# EAGLE library part CP2110-F02-GM1 (library Silicon Labs)
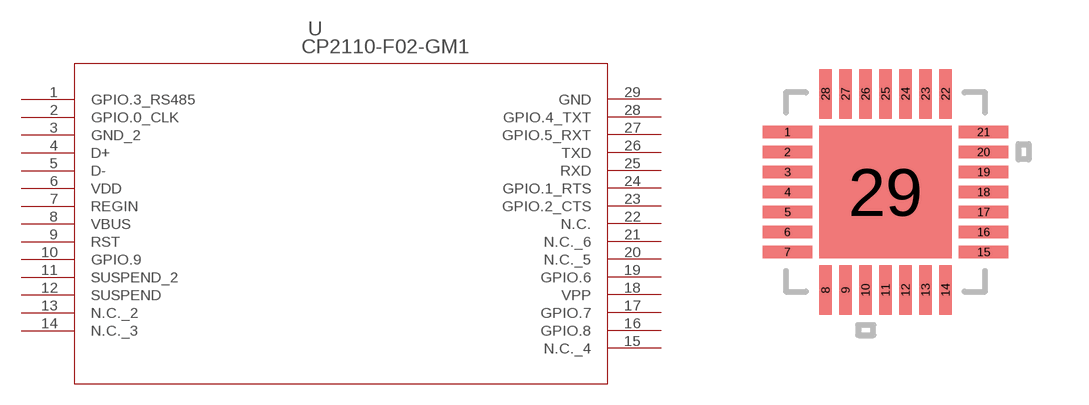
[diagram p8: symbol with the pads of CP2110-F02-GM1; footprint CP2110-F02-GM1]

Designator prefix U

## CP2110-F02-GM1  [CP2110-F02-GM1]
1  GPIO.3_RS485
2  GPIO.0_CLK
3  GND_2  pwr
4  D+
5  D-
6  VDD  pwr
7  REGIN  pwr
8  VBUS  in
9  RST
10  GPIO.9
11  SUSPEND_2  out
12  SUSPEND  out
13  N.C._2  nc
14  N.C._3  nc
15  N.C._4  nc
16  GPIO.8
17  GPIO.7
18  VPP  pas
19  GPIO.6
20  N.C._5  nc
21  N.C._6  nc
22  N.C.  nc
23  GPIO.2_CTS
24  GPIO.1_RTS
25  RXD  in
26  TXD  out
27  GPIO.5_RXT
28  GPIO.4_TXT
29  GND  pwr

## Footprint CP2110-F02-GM1 (pad centres in mm)
smd 1.245 x 0.305: 1 -2.452,1.5; 2 -2.452,1; 3 -2.452,0.5; 4 -2.452,0; 5 -2.452,-0.5; 6 -2.452,-1; 7 -2.452,-1.5; 15 2.452,-1.5; 16 2.452,-1; 17 2.452,-0.5; 18 2.452,0; 19 2.452,0.5; 20 2.452,1; 21 2.452,1.5
smd 0.305 x 1.245: 8 -1.5,-2.452; 9 -1,-2.452; 10 -0.5,-2.452; 11 0,-2.452; 12 0.5,-2.452; 13 1,-2.452; 14 1.5,-2.452; 22 1.5,2.452; 23 1,2.452; 24 0.5,2.452; 25 0,2.452; 26 -0.5,2.452; 27 -1,2.452; 28 -1.5,2.452
smd 3.302 x 3.302: 29 0,0